# Altium schematic symbol library TC2117-3.3VDBTR.SchLib: 1 symbol
Pins are listed as number, name and electrical type; pins without a type are passive.

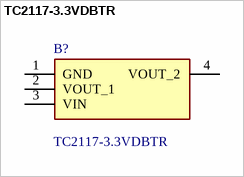
[diagram p0: symbol TC2117-3.3VDBTR]

## TC2117-3.3VDBTR
designator B?
Microchip TC2117-3.3VDBTR, LDO Voltage Regulator, 800mA, 3.3 V +/-0.5%, 2.7  6 Vin, 3-Pin SOT-223; Geometry.Height: 1.8mm; Manufacturer_Name: Microchip; Manufacturer_Part_Number: TC2117-3.3VDBTR; Mouser Part Number: 579-TC2117-3.3VDBTR; Mouser Price/Stock: https://www.mouser.co.uk/ProductDetail/Microchip-Technology/TC2117-3.3VDBTR?qs=AF%252BffTaPb30YsLOBvxArLw%3D%3D; Arrow Part Number: TC2117-3.3VDBTR; Arrow Price/Stock: https://www.arrow.com/en/products/tc2117-3.3vdbtr/microchip-technology?region=nac; Datasheet Link: https://componentsearchengine.com/Datasheets/2/TC2117-3.3VDBTR.pdf
footprint SOT230P700X180-4N
pins: 1 GND, 2 VOUT_1, 3 VIN, 4 VOUT_2